# Altium schematic symbol library R_0.SchLib: 1 symbol
Pins are listed as number, name and electrical type; pins without a type are passive.

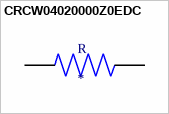
[diagram p0: symbol CRCW04020000Z0EDC]

## CRCW04020000Z0EDC
designator R
0 Ohms Jumper 0.063W, 1/16W Chip Resistor 0402 (1005 Metric) Thick Film; MF: Vishay Dale; MP: CRCW04020000Z0EDC; Package: 1005 Yageo; DigiKey-Purchase-URL: https://snapeda.com/shop?store=DigiKey&id=3593962; Value: *; Mouser-Purchase-URL: https://snapeda.com/shop?store=Mouser&id=3593962; Digi-Key_Part_Number: 541-4062-1-ND; SnapEDA_Link: https://www.snapeda.com/parts/CRCW04020000Z0EDC/Vishay%20Dale/view-part/3593962/?ref=snap; Check_prices: https://www.snapeda.com/parts/CRCW04020000Z0EDC/Vishay%20Dale/view-part/3593962/?ref=eda
footprint RESC1005X35N
pins: 1, 2